# EAGLE library part MAX1765 (library POVLibrary)
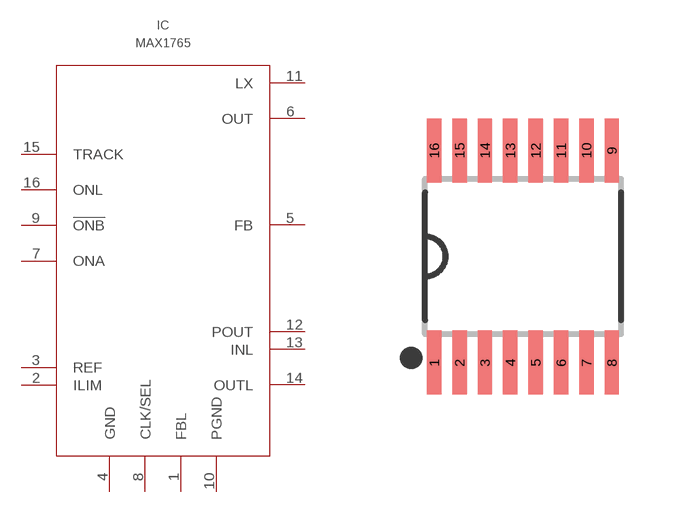
[diagram p2: symbol with the pads of SM_QSOP16; footprint SM_QSOP16]

Designator prefix IC

## MAX1765  [SM_QSOP16]
1  FBL
2  ILIM
3  REF
4  GND
5  FB
6  OUT
7  ONA
8  CLK/SEL
9  !ONB
10  PGND
11  LX
12  POUT
13  INL
14  OUTL
15  TRACK
16  ONL

## Footprint SM_QSOP16 (pad centres in mm)
smd 0.36 x 1.6: 1 -2.223,-2.655; 2 -1.587,-2.655; 3 -0.953,-2.655; 4 -0.318,-2.655; 5 0.318,-2.655; 6 0.953,-2.655; 7 1.587,-2.655; 8 2.223,-2.655; 9 2.223,2.655; 10 1.587,2.655; 11 0.953,2.655; 12 0.318,2.655; 13 -0.318,2.655; 14 -0.953,2.655; 15 -1.587,2.655; 16 -2.223,2.655